# EAGLE library part M95 (library ohranyator)
QUECTEL M95 gsm module
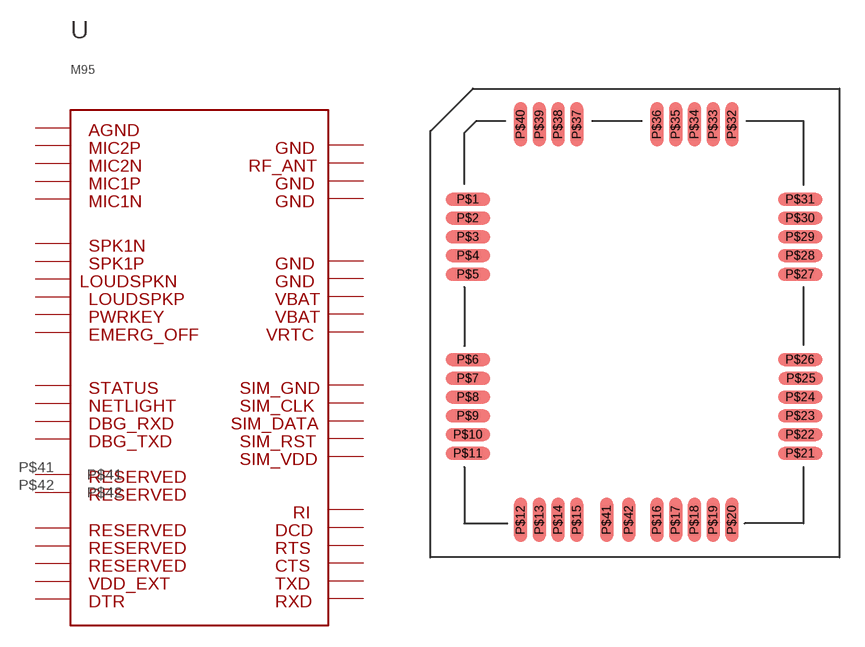
[diagram p8: symbol with the pads of M95; footprint M95]

Designator prefix -

## M95  [M95]
P$1  P$1
P$2  P$2
P$3  P$3
P$4  P$4
P$5  P$5
P$6  P$6
P$7  P$7
P$8  P$8
P$9  P$9
P$10  P$10
P$11  P$11
P$12  P$12
P$13  P$13
P$14  P$14
P$15  P$15
P$16  P$16
P$17  P$17
P$18  P$18
P$19  P$19
P$20  P$20
P$21  P$21
P$22  P$22
P$23  P$23
P$24  P$24
P$25  P$25
P$26  P$26
P$27  P$27
P$28  P$28
P$29  P$29
P$30  P$30
P$31  P$31
P$32  P$32
P$33  P$33
P$34  P$34
P$35  P$35
P$36  P$36
P$37  P$37
P$38  P$38
P$39  P$39
P$40  P$40
P$41  P$41
P$42  P$42

## Footprint M95 (pad centres in mm)
smd 2.6 x 0.75: P$1 0.2,19; P$2 0.2,17.9; P$3 0.2,16.8; P$4 0.2,15.7; P$5 0.2,14.6; P$6 0.2,9.6; P$7 0.2,8.5; P$8 0.2,7.4; P$9 0.2,6.3; P$10 0.2,5.2; P$11 0.2,4.1; P$21 19.7,4.1; P$22 19.7,5.2; P$23 19.7,6.3; P$24 19.7,7.4; P$25 19.75,8.5; P$26 19.7,9.6; P$27 19.7,14.6; P$28 19.7,15.7; P$29 19.7,16.8; P$30 19.7,17.9; P$31 19.7,19
smd 0.75 x 2.6: P$12 3.3,0.2; P$13 4.4,0.2; P$14 5.5,0.2; P$15 6.6,0.2; P$16 11.3,0.2; P$17 12.4,0.2; P$18 13.5,0.2; P$19 14.6,0.2; P$20 15.7,0.2; P$32 15.7,23.4; P$33 14.6,23.4; P$34 13.5,23.4; P$35 12.4,23.4; P$36 11.3,23.4; P$37 6.6,23.4; P$38 5.5,23.4; P$39 4.4,23.4; P$40 3.3,23.4; P$41 8.35,0.2; P$42 9.65,0.2